# EAGLE library part ADS1241 (library seanvoisen)
TI ADS1241 ADC The ADS1240 and ADS1241 are precision, wide dynamic range, delta-sigma, Analog-to-Digital (A/D) converters with 24-bit resolution operating from 2.7V to 5.25V power supplies. The delta-sigma A/D converter provides up to 24 bits of no missing code performance and effective resolution of 21 bits.
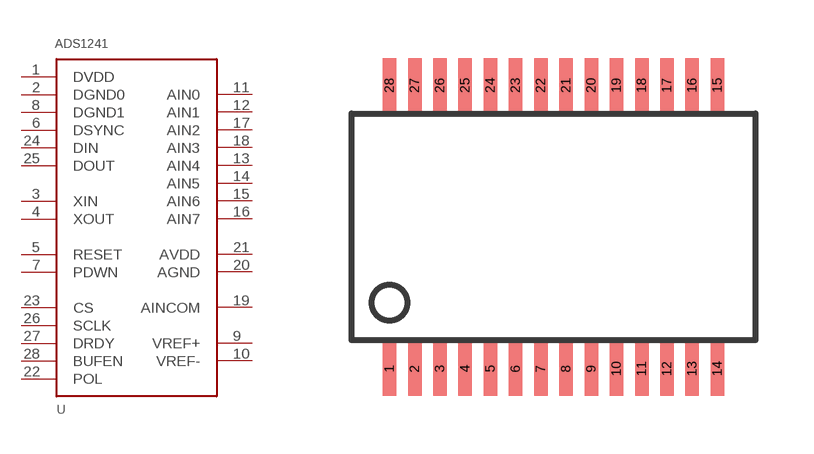
[diagram p2: symbol with the pads of SSOP28DB; footprint SSOP28DB]

Designator prefix -

## ADS1241  [SSOP28DB]
1  DVDD
2  DGND0
3  XIN
4  XOUT
5  RESET
6  DSYNC
7  PDWN
8  DGND1
9  VREF+
10  VREF-
11  AIN0
12  AIN1
13  AIN4
14  AIN5
15  AIN6
16  AIN7
17  AIN2
18  AIN3
19  AINCOM
20  AGND
21  AVDD
22  POL
23  CS
24  DIN
25  DOUT
26  SCLK
27  DRDY
28  BUFEN

## Footprint SSOP28DB (pad centres in mm)
Small Shrink Outline Package
smd 0.348 x 1.397: 1 -4.225,-3.656; 2 -3.575,-3.656; 3 -2.925,-3.656; 4 -2.275,-3.656; 5 -1.625,-3.656; 6 -0.975,-3.656; 7 -0.325,-3.656; 8 0.325,-3.656; 9 0.975,-3.656; 10 1.625,-3.656; 11 2.275,-3.656; 12 2.925,-3.656; 13 3.575,-3.656; 14 4.225,-3.656; 15 4.225,3.656; 16 3.575,3.656; 17 2.925,3.656; 18 2.275,3.656; 19 1.625,3.656; 20 0.975,3.656; 21 0.325,3.656; 22 -0.325,3.656; 23 -0.975,3.656; 24 -1.625,3.656; 25 -2.275,3.656; 26 -2.925,3.656; 27 -3.575,3.656; 28 -4.225,3.656